# Altium schematic symbol library M_HEATSINK_DPAK-1.Schlib: 1 symbol
Pins are listed as number, name and electrical type; pins without a type are passive.

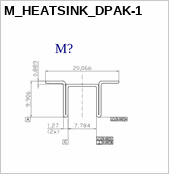
[diagram p0: symbol M_HEATSINK_DPAK-1]

## M_HEATSINK_DPAK-1
designator M?  (mechanical)